# EAGLE library part PSOC_100 (library Lysenko_Eagle_Lib)
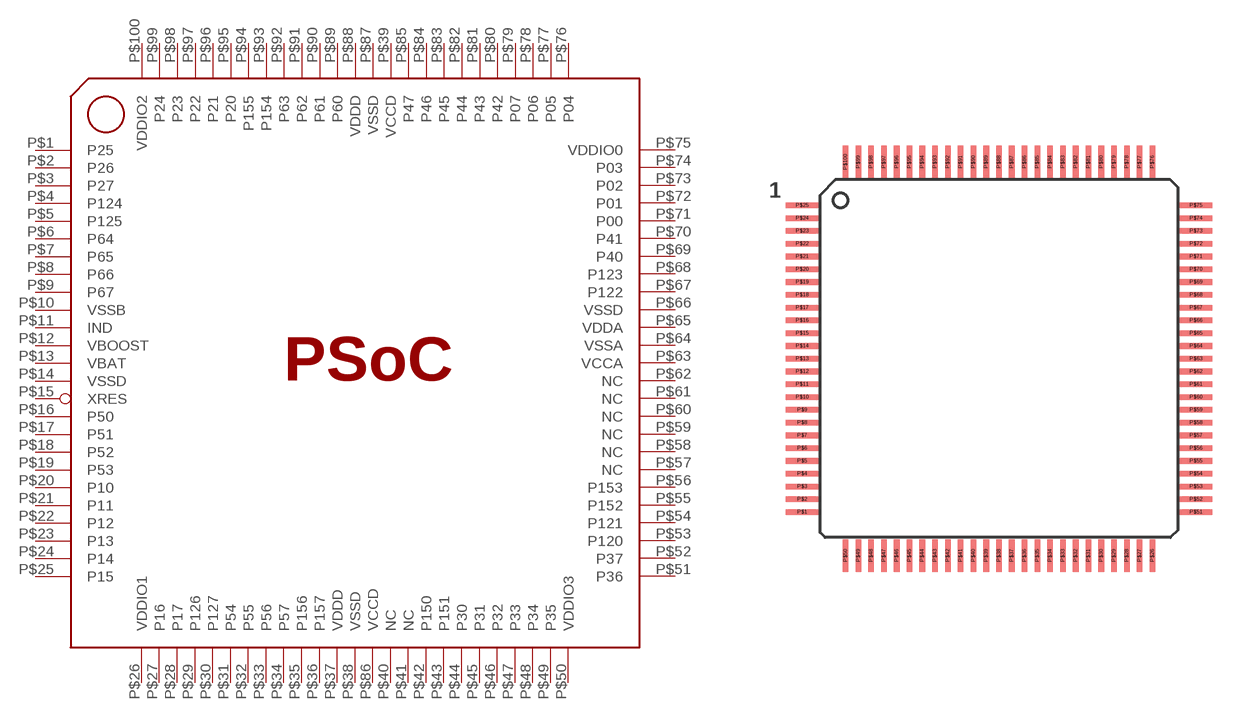
[diagram p6: symbol with the pads of PSOC_100; footprint PSOC_100]

Designator prefix -

## PSOC_100  [PSOC_100]
P$1  P25
P$2  P26
P$3  P27
P$4  P124
P$5  P125
P$6  P64
P$7  P65
P$8  P66
P$9  P67
P$10  VSSB
P$11  IND
P$12  VBOOST
P$13  VBAT
P$14  VSSD
P$15  XRES
P$16  P50
P$17  P51
P$18  P52
P$19  P53
P$20  P10
P$21  P11
P$22  P12
P$23  P13
P$24  P14
P$25  P15
P$26  VDDIO1
P$27  P16
P$28  P17
P$29  P126
P$30  P127
P$31  P54
P$32  P55
P$33  P56
P$34  P57
P$35  P156
P$36  P157
P$37  VDDD
P$38  VSSD
P$39  VCCD
P$40  NC
P$41  NC
P$42  P150
P$43  P151
P$44  P30
P$45  P31
P$46  P32
P$47  P33
P$48  P34
P$49  P35
P$50  VDDIO3
P$51  P36
P$52  P37
P$53  P120
P$54  P121
P$55  P152
P$56  P153
P$57  NC
P$58  NC
P$59  NC
P$60  NC
P$61  NC
P$62  NC
P$63  VCCA
P$64  VSSA
P$65  VDDA
P$66  VSSD
P$67  P122
P$68  P123
P$69  P40
P$70  P41
P$71  P00
P$72  P01
P$73  P02
P$74  P03
P$75  VDDIO0
P$76  P04
P$77  P05
P$78  P06
P$79  P07
P$80  P42
P$81  P43
P$82  P44
P$83  P45
P$84  P46
P$85  P47
P$86  VCCD
P$87  VSSD
P$88  VDDD
P$89  P60
P$90  P61
P$91  P62
P$92  P63
P$93  P154
P$94  P155
P$95  P20
P$96  P21
P$97  P22
P$98  P23
P$99  P24
P$100  VDDIO2

## Footprint PSOC_100 (pad centres in mm)
smd 1.27 x 0.22: P$1 -7.05,-6.62; P$2 -7.05,-6.12; P$3 -7.05,-5.62; P$4 -7.05,-5.12; P$5 -7.05,-4.62; P$6 -7.05,-4.12; P$7 -7.05,-3.62; P$8 -7.05,-3.12; P$9 -7.05,-2.62; P$10 -7.05,-2.12; P$11 -7.05,-1.62; P$12 -7.05,-1.12; P$13 -7.05,-0.62; P$14 -7.05,-0.12; P$15 -7.05,0.38; P$16 -7.05,0.88; P$17 -7.05,1.38; P$18 -7.05,1.88; P$19 -7.05,2.38; P$20 -7.05,2.88; P$21 -7.05,3.38; P$22 -7.05,3.88; P$23 -7.05,4.38; P$24 -7.05,4.88; P$25 -7.05,5.38; P$51 8.35,-6.62; P$52 8.35,-6.12; P$53 8.35,-5.62; P$54 8.35,-5.12; P$55 8.35,-4.62; P$56 8.35,-4.12; P$57 8.35,-3.62; P$58 8.35,-3.12; P$59 8.35,-2.62; P$60 8.35,-2.12; P$61 8.35,-1.62; P$62 8.35,-1.12; P$63 8.35,-0.62; P$64 8.35,-0.12; P$65 8.35,0.38; P$66 8.35,0.88; P$67 8.35,1.38; P$68 8.35,1.88; P$69 8.35,2.38; P$70 8.35,2.88; P$71 8.35,3.38; P$72 8.35,3.88; P$73 8.35,4.38; P$74 8.35,4.88; P$75 8.35,5.38
smd 0.22 x 1.27: P$26 6.65,-8.32; P$27 6.15,-8.32; P$28 5.65,-8.32; P$29 5.15,-8.32; P$30 4.65,-8.32; P$31 4.15,-8.32; P$32 3.65,-8.32; P$33 3.15,-8.32; P$34 2.65,-8.32; P$35 2.15,-8.32; P$36 1.65,-8.32; P$37 1.15,-8.32; P$38 0.65,-8.32; P$39 0.15,-8.32; P$40 -0.35,-8.32; P$41 -0.85,-8.32; P$42 -1.35,-8.32; P$43 -1.85,-8.32; P$44 -2.35,-8.32; P$45 -2.85,-8.32; P$46 -3.35,-8.32; P$47 -3.85,-8.32; P$48 -4.35,-8.32; P$49 -4.85,-8.32; P$50 -5.35,-8.32; P$76 6.65,7.08; P$77 6.15,7.08; P$78 5.65,7.08; P$79 5.15,7.08; P$80 4.65,7.08; P$81 4.15,7.08; P$82 3.65,7.08; P$83 3.15,7.08; P$84 2.65,7.08; P$85 2.15,7.08; P$86 1.65,7.08; P$87 1.15,7.08; P$88 0.65,7.08; P$89 0.15,7.08; P$90 -0.35,7.08; P$91 -0.85,7.08; P$92 -1.35,7.08; P$93 -1.85,7.08; P$94 -2.35,7.08; P$95 -2.85,7.08; P$96 -3.35,7.08; P$97 -3.85,7.08; P$98 -4.35,7.08; P$99 -4.85,7.08; P$100 -5.35,7.08